# Altium footprint library FR5969v1.0.PcbLib: 11 footprints
Each footprint in its own frame and in the unit in brackets; x right, y up, seen from the top. Pads: shape width x height; smd on the part's side, far side on the other; paste and mask are expansions set on the pad; w line width, h text height; cw(c..) or ccw(c..) is an arc to the next point about the centre after c.
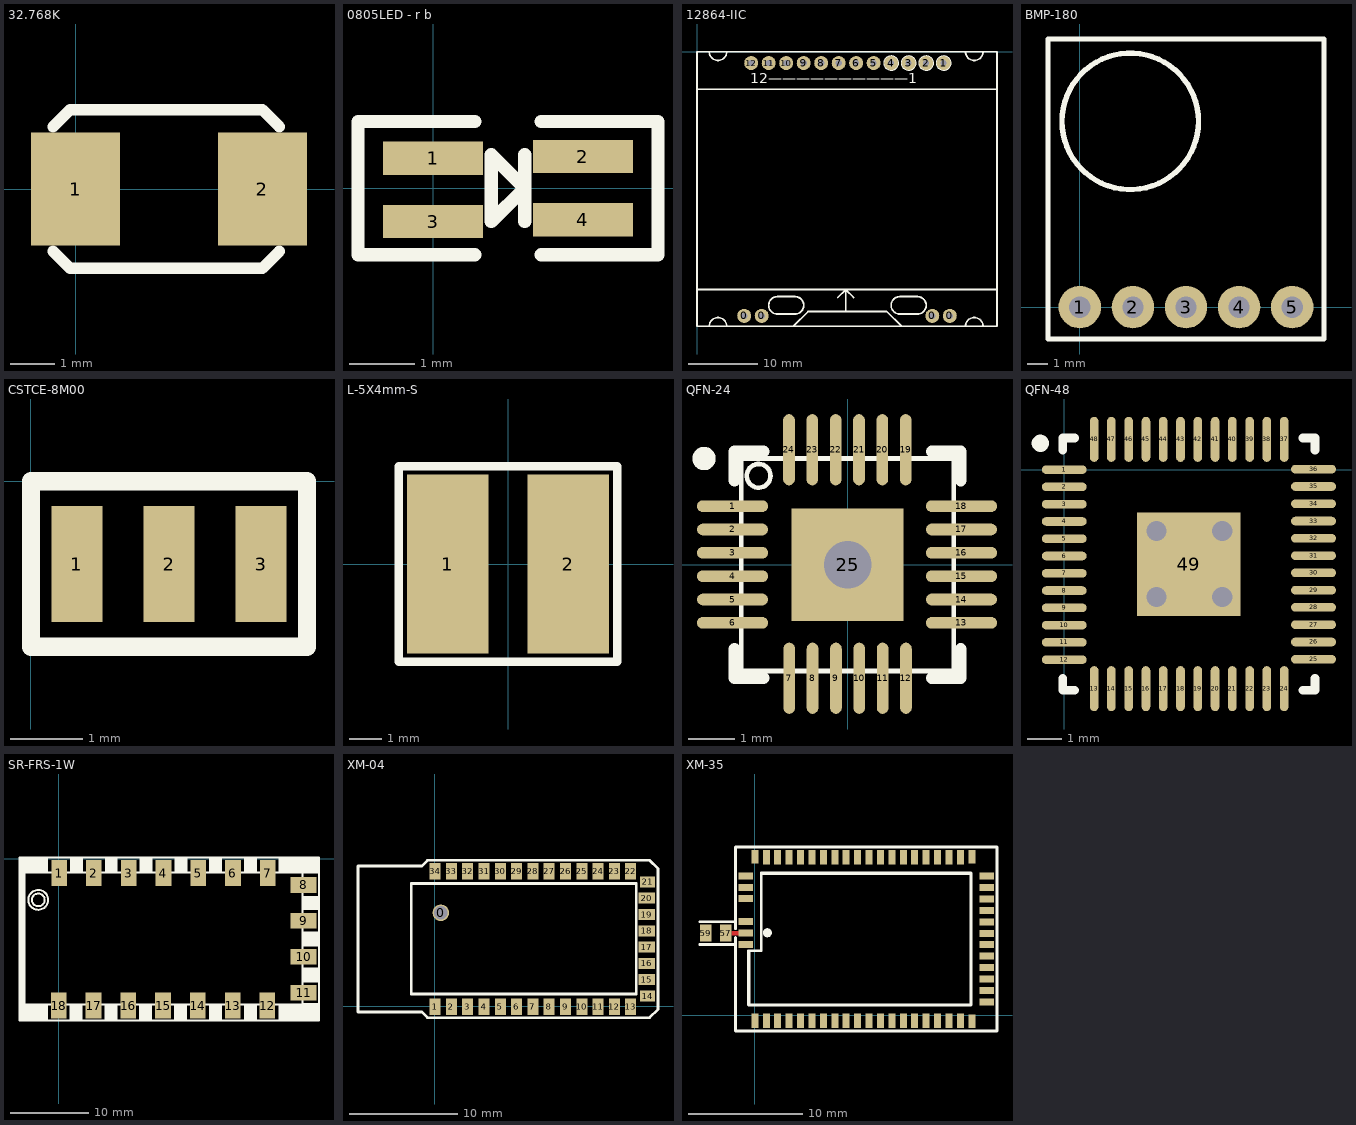
[diagram p0: the footprints below, top view; thin cyan lines are the x and y axes]

## 32.768K [mm]
pads (2):
  rect 2x2.54 smd: 1(0,0) 2(4.191,0)
Top Overlay:
  lines w0.254: -0.508,-1.397 -0.127,-1.778 4.191,-1.778 4.572,-1.397 ; -0.508,1.397 -0.127,1.778 4.191,1.778 4.572,1.397

## 0805LED - r b [mil]
pads (4):
  rect 60x20 smd: 1(0,18) 2(90,19) 3(0,-20) 4(90,-19)
Top Overlay:
  lines w8: 25,-40 -45,-40 -45,40 25,40 ; 55,-20 55,20 ; 65,-40 135,-40 135,40 65,40 ; 35,-20 55,0 35,20 35,-20
3D body: height 43.31, standoff 0, extent 5.24,-24.6 84.77,24.61

## 12864-IIC [mil]
pads (16):
  round 80 hole 35: 0(270,-1510) 0(370,-1510) 0(1345,-1510) 0(1445,-1510) 1(1410,-65) 2(1310,-65) 3(1210,-65) 4(1110,-65) 5(1010,-65) 6(910,-65) 7(810,-65) 8(710,-65) 9(610,-65) 10(510,-65) 11(410,-65) 12(310,-65)
Top Overlay:
  circle w10: c1110,-65 r40
  circle w10: c1210,-65 r40
  circle w10: c1310,-65 r40
  circle w10: c1410,-65 r40
  lines w10: 0,-1360 1715,-1360 ; 0,-215 1715,-215 ; 70,-1569.75 cw(c120,-1569.75) 170,-1569.75 ; 70,0.25 ccw(c120,0) 170,0.25 ; 550,-1570 635,-1485 1085,-1485 1170,-1570 ; 805,-1405 850,-1360 ; 850,-1485 850,-1360 ; 895,-1405 850,-1360 ; 1535,-1570 cw(c1585,-1569.75) 1635,-1570 ; 1535,0 ccw(c1585,0) 1635,0 ; 0,-1570 0,0 1715,0 1715,-1570 0,-1570 ; 460,-1500 cw(c459.75,-1450) 460,-1400 560,-1400 cw(c560,-1450) 560,-1500 460,-1500 ; 1160,-1500 cw(c1159.75,-1450) 1160,-1400 1260,-1400 cw(c1260,-1450) 1260,-1500 1160,-1500
  text "12——————————1" at 305,-200 h100

## BMP-180 [mil]
height 472.44
pads (5):
  round 80 hole 40: 1(0,0) 2(100,0) 3(200,0) 4(300,0) 5(400,0)
Top Overlay:
  circle w10: c95,350 r128.55
  lines w10: -60,-60 -60,505 460,505 460,-60 -60,-60
3D body: height 336.22, standoff -118.11, extent -50,-50 450,48.43

## CSTCE-8M00 [mm]
pads (3):
  rect 0.7x1.6 smd: 1(0.635,-1.143) 2(1.905,-1.143) 3(3.175,-1.143)
Top Overlay:
  lines w0.254: 0,-2.286 0,-1.27 0,0 3.81,0 3.81,-2.286 0,-2.286

## L-5X4mm-S [mm]
height 4.5
pads (2):
  rect 2.5x5.5 smd: 1(-1.85,0) 2(1.85,0)
Top Overlay:
  lines w0.254: -3.353,-2.997 3.353,-2.997 3.353,2.997 -3.353,2.997 -3.353,-2.997
3D body: height 4.5, standoff -0.01, extent -2.857,-2.6 2.857,2.6

## QFN-24 [mil] "QFN, 24-Leads"
height 31.5
pads (25):
  oval 60x9.84 smd: 1(-97,49.43) 2(-97,29.74) 3(-97,10.06) 4(-97,-9.63) 5(-97,-29.32) 6(-97,-49) 13(96,-49) 14(96,-29.32) 15(96,-9.63) 16(96,10.06) 17(96,29.74) 18(96,49.43)
  oval 9.84x60 smd: 7(-49.21,-95.72) 8(-29.53,-95.72) 9(-9.84,-95.72) 10(9.84,-95.72) 11(29.53,-95.72) 12(49.21,-95.72) 19(49,97) 20(29.32,97) 21(9.63,97) 22(-10.06,97) 23(-29.74,97) 24(-49.43,97)
  rect 94.49x94.49 smd: 25(0,0)
via 0,0 diameter 50 hole 40
Top Overlay:
  circle w9.84: c-121.06,89.57 r4.92
  circle w3.94: c-75,75 r10
  lines w3.94: -89.57,-89.57 -89.57,89.57 89.57,89.57 89.57,-89.57 -89.57,-89.57
  lines w10: -95.47,-70.94 -95.47,-95.47 -70.94,-95.47 ; -95.47,70.94 -95.47,95.47 -70.94,95.47 ; 70.94,-95.47 95.47,-95.47 95.47,-70.94 ; 70.94,95.47 95.47,95.47 95.47,70.94
Mechanical 15:
  lines w3.94: -19.68,0 19.68,0 ; 0,-19.68 0,19.68
3D body: height 39.37, standoff 0, extent -79.13,-79.12 79.14,79.14

## QFN-48 [mm]
height 1
pads (49):
  oval 1.3x0.25 smd: 1(0,0) 2(0,-0.5) 3(0,-1) 4(0,-1.5) 5(0,-2) 6(0,-2.5) 7(0,-3) 8(0,-3.5) 9(0,-4) 10(0,-4.5) 11(0,-5) 12(0,-5.5) 25(7.214,-5.488) 26(7.214,-4.988) 27(7.214,-4.488) 28(7.214,-3.988) 29(7.214,-3.488) 30(7.214,-2.988) 31(7.214,-2.488) 32(7.214,-1.988) 33(7.214,-1.488) 34(7.214,-0.988) 35(7.214,-0.488) 36(7.214,0.012)
  oval 0.25x1.3 smd: 13(0.864,-6.338) 14(1.364,-6.338) 15(1.864,-6.338) 16(2.364,-6.338) 17(2.864,-6.338) 18(3.364,-6.338) 19(3.864,-6.338) 20(4.364,-6.338) 21(4.864,-6.338) 22(5.364,-6.338) 23(5.864,-6.338) 24(6.364,-6.338) 37(6.364,0.875) 38(5.864,0.875) 39(5.364,0.875) 40(4.864,0.875) 41(4.364,0.875) 42(3.864,0.875) 43(3.364,0.875) 44(2.864,0.875) 45(2.364,0.875) 46(1.864,0.875) 47(1.364,0.875) 48(0.864,0.875)
  rect 3x3 smd: 49(3.607,-2.738)
via 2.667,-3.683 diameter 1.016 hole 0.584
via 4.572,-3.683 diameter 1.016 hole 0.584
via 4.572,-1.778 diameter 1.016 hole 0.584
via 2.667,-1.778 diameter 1.016 hole 0.584
Top Overlay:
  circle w0.25: c-0.693,0.762 r0.125
  lines w0.254: -0.043,-6.04 -0.043,-6.388 0.305,-6.388 ; -0.043,0.564 -0.043,0.912 0.305,0.912 ; 6.909,-6.388 7.257,-6.388 7.257,-6.04 ; 6.909,0.912 7.257,0.912 7.257,0.564
3D body: height 1, standoff 0.01, extent 0.107,-6.238 7.107,0.762

## SR-FRS-1W [mil]
pads (18):
  rect 78.74x130 smd: 1(2,-73) 2(177,-73) 3(352,-73) 4(527,-73) 5(702,-73) 6(877,-73) 7(1052,-73) 12(1050,-740) 13(875,-740) 14(700,-740) 15(525,-740) 16(350,-740) 17(175,-740) 18(0,-740)
  rect 130x78.74 smd: 8(1232,-133) 9(1232,-314) 10(1232,-495) 11(1232,-676)
Top Overlay:
  circle w10: c-103,-208 r50
  circle w10: c-103,-208 r32.02
  rectangle: -198,-778 -173,-33
  rectangle: -198,-73 -53,5
  rectangle: 57,-73 122,5
  rectangle: 232,-73 297,5
  rectangle: 407,-73 472,5
  rectangle: 582,-73 647,5
  rectangle: 757,-73 822,5
  rectangle: 932,-73 997,5
  rectangle: 1107,-73 1310,5
  rectangle: 1227,-75 1310,-68
  rectangle: 1227,-258 1310,-188
  rectangle: 1227,-443 1310,-368
  rectangle: 1227,-623 1310,-548
  rectangle: 1227,-778 1310,-728
  rectangle: 1107,-810 1310,-738
  rectangle: 932,-810 997,-738
  rectangle: 757,-810 822,-738
  rectangle: 580,-810 645,-738
  rectangle: 405,-810 470,-738
  rectangle: 230,-810 295,-738
  rectangle: 55,-810 120,-738
  rectangle: -200,-812 -55,-740
  lines w10: -198,-815 1310,-815 1310,5 -198,5 -198,-815 ; -173,-735 1227,-735 1227,-70 39,-70 -173,-70 -173,-735

## XM-04 [mil]
pads (35):
  round 60 hole 50: 0(22,339)
  rect 40x60 smd: 1(1.35,-1.02) 2(60.41,-1.02) 3(119.46,-1.02) 4(178.52,-1.02) 5(237.57,-1.02) 6(296.63,-1.02) 7(355.68,-1.02) 8(414.74,-1.02) 9(473.79,-1.02) 10(532.85,-1.02) 11(591.9,-1.02) 12(650.96,-1.02) 13(710.01,-1.02) 22(710.01,489.89) 23(650.96,489.89) 24(591.9,489.89) 25(532.85,489.89) 26(473.79,489.89) 27(414.74,489.89) 28(355.68,489.89) 29(296.63,489.89) 30(237.57,489.89) 31(178.52,489.89) 32(119.46,489.89) 33(60.41,488.98) 34(1.35,488.98)
  rect 55.12x40 smd: 14(770.97,37.4) 21(770.97,450.79)
  rect 60x40 smd: 15(768.97,96.46) 16(768.97,155.51) 17(768.97,214.57) 18(768.97,273.62) 19(768.97,332.68) 20(768.97,391.73)
Top Overlay:
  lines w10: 778.9,528.98 -26.09,528.98 -46.09,508.98 -278.19,508.98 -278.19,-21.02 -46.09,-21.02 -26.09,-41.02 778.9,-41.02 809,-10.91 809,499 779.02,528.98 ; -85,45 730,45 730,445 -85,445 -85,45

## XM-35 [mil]
pads (61):
  rect 24x50 smd: 1(0,-20) 2(39.37,-20) 3(78.74,-20) 4(118.11,-20) 5(157.48,-20) 6(196.85,-20) 7(236.22,-20) 8(275.59,-20) 9(314.96,-20) 10(354.33,-20) 11(393.7,-20) 12(433.07,-20) 13(472.44,-20) 14(511.81,-20) 15(551.18,-20) 16(590.55,-20) 17(629.92,-20) 18(669.29,-20) 19(708.66,-20) 34(708.66,544) 35(669.29,544) 36(629.92,544) 37(590.55,544) 38(551.18,544) 39(511.81,544) 40(472.44,544) 41(433.07,544) 42(393.7,544) 43(354.33,544) 44(314.96,544) 45(275.59,544) 46(236.22,544) 47(196.85,544) 48(157.48,544) 49(118.11,544) 50(78.74,544) 51(39.37,544)
  rect 24x47.24 smd: 20(748.03,-21) 33(748.03,546)
  rect 50x24 smd: 21(800,45.94) 22(800,85.3) 23(800,124.67) 24(800,164.04) 25(800,203.41) 26(800,242.78) 27(800,282.15) 28(800,321.52) 29(800,360.89) 30(800,400.26) 31(800,439.63) 32(800,479) 53(-31,480.24) 54(-31,440.87) 55(-31,401.49) 56(-31,322.76) 57(-31,283.39) 58(-31,244)
  rect 24x45.28 smd: 52(0,546)
  rect 40x59.06 smd: 57(-100,283) 59(-170,283)
  round 31.5 on Top Overlay: ""(43.31,284)
Top Layer:
  rectangle: -81,275 -51,290
Top Overlay:
  lines w10: -190,244 -67,244 ; -190,322 -67,322 ; -67,267 -67,-55 835,-55 835,580 -66,580 -67,579 -67,298 ; -20,220 -20,35 745,35 ; 18,222 -22,222 ; 22,489 745,489 ; 745,34.61 745,261.61 745,488.61 ; -22,222 -22,35 745,35 ; -22,222 22,222 22,490 745,490 745,35